# Altium schematic symbol library MAX662AESA+T.SchLib: 1 symbol
Pins are listed as number, name and electrical type; pins without a type are passive.

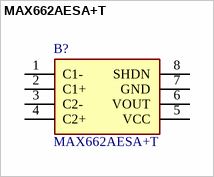
[diagram p0: symbol MAX662AESA+T]

## MAX662AESA+T
designator B?
Switching Voltage Regulators 12V, 30mA Flash Memory Programming Supply; Manufacturer_Name: Analog Devices; Geometry.Height: 1.75mm; Mouser Part Number: 700-MAX662AESAT; Mouser Price/Stock: https://www.mouser.co.uk/ProductDetail/Analog-Devices-Maxim-Integrated/MAX662AESA%2bT?qs=Mqkh4jHMT8xwCw6RdkV8HQ%3D%3D; Manufacturer_Part_Number: MAX662AESA+T; Datasheet Link: http://datasheets.maximintegrated.com/en/ds/MAX662A.pdf
footprint SOIC127P600X175-8N
pins: 1 C1-, 2 C1+, 3 C2-, 4 C2+, 5 VCC, 6 VOUT, 7 GND, 8 SHDN